# EAGLE library part IR2127 (library mylib)
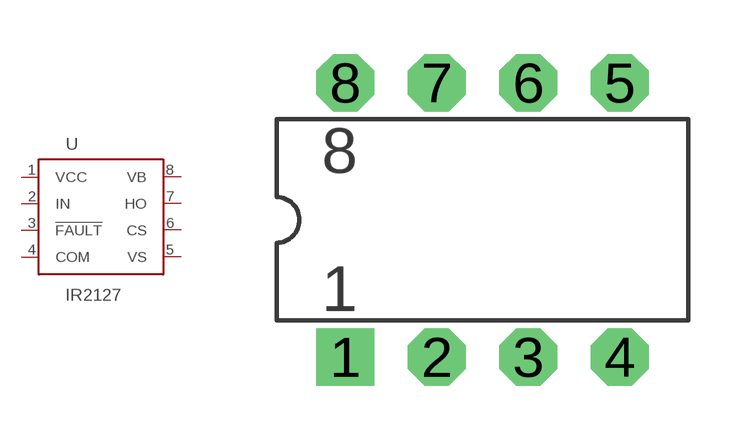
[diagram p3: symbol with the pads of DIL08; footprint DIL08]

Designator prefix -

## IR2127  [DIL08]
1  VCC
2  IN
3  !FAULT
4  COM
5  VS
6  CS
7  HO
8  VB

## Footprint DIL08 (pad centres in mm)
drill 0.813 pad 1.6 square: 1 -3.81,-3.81
drill 0.813 pad 1.6 octagon: 2 -1.27,-3.81; 3 1.27,-3.81; 4 3.81,-3.81; 5 3.81,3.81; 6 1.27,3.81; 7 -1.27,3.81; 8 -3.81,3.81